# Altium schematic symbol library HIH-4030SMD.SchLib: 1 symbol
Pins are listed as number, name and electrical type; pins without a type are passive.

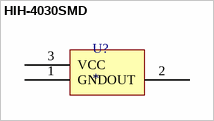
[diagram p0: symbol HIH-4030SMD]

## HIH-4030SMD
designator U?
footprint HIH-4030SMD; pin to pad 1>3 3>1
pins: 1 GND, 2 OUT, 3 VCC